# Altium footprint library WE-MAPI_4030.PcbLib: 1 footprints
Each footprint in its own frame and in the unit in brackets; x right, y up, seen from the top. Pads: shape width x height; smd on the part's side, far side on the other; paste and mask are expansions set on the pad; w line width, h text height; cw(c..) or ccw(c..) is an arc to the next point about the centre after c.
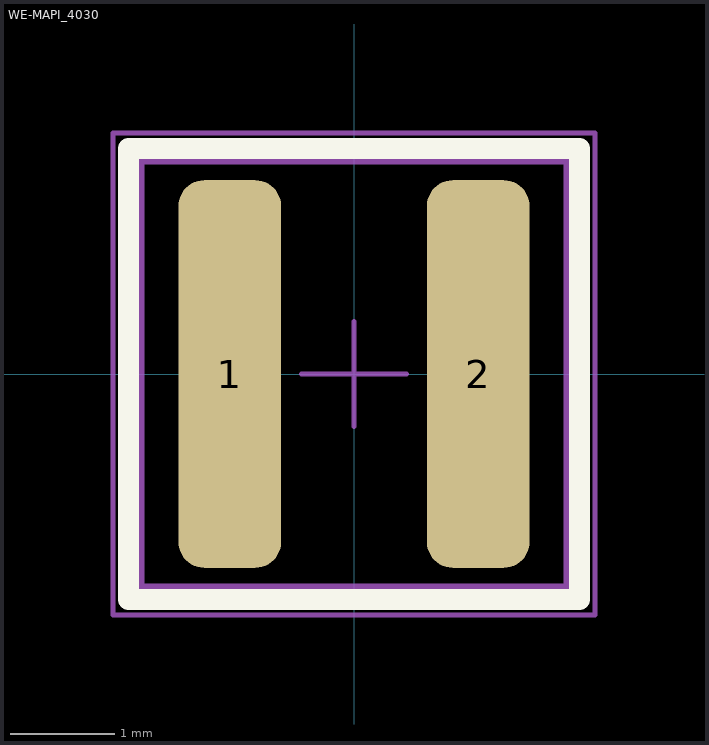
[diagram p0: the footprint, top view; thin cyan lines are the x and y axes]

## WE-MAPI_4030 [mm] "SMT Shielded Power Inductor, body 4.1x4.1mm"
height 3.1
pads (2):
  rrect50% 0.98x3.7 smd: 1(-1.185,0) 2(1.185,0)
Top Overlay:
  lines w0.2: -2.15,-2.15 2.15,-2.15 2.15,2.15 -2.15,2.15 -2.15,-2.15
Top Assembly:
  lines w0.1: -2.05,-2.05 -2.05,2.05 2.05,2.05 2.05,-2.05 -2.05,-2.05
Top Courtyard:
  lines w0.05: -0.5,0 0.5,0 ; 0,-0.5 0,0.5 ; -2.3,-2.3 -2.3,2.3 2.3,2.3 2.3,-2.3 -2.3,-2.3
3D body "IndMAPI_4030_74438357xxx.stp": height 3.1, standoff 0, extent -2.05,-2.05 2.05,2.05